# Altium footprint library LEDs.PcbLib: 6 footprints
Each footprint in its own frame and in the unit in brackets; x right, y up, seen from the top. Pads: shape width x height; smd on the part's side, far side on the other; paste and mask are expansions set on the pad; w line width, h text height; cw(c..) or ccw(c..) is an arc to the next point about the centre after c.
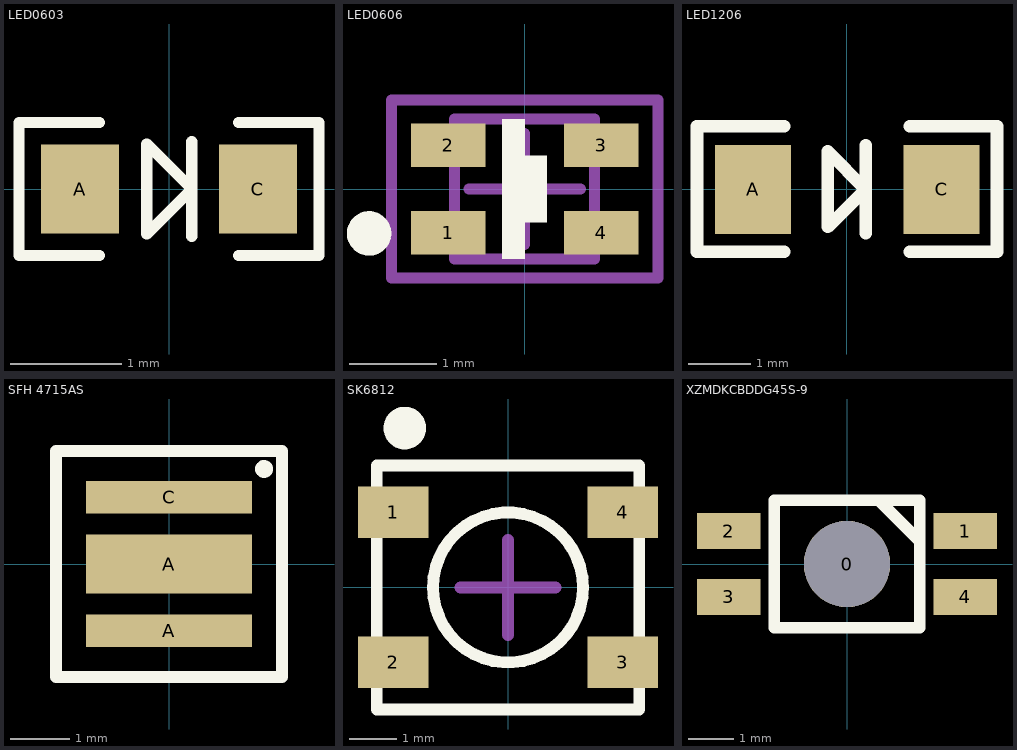
[diagram p0: the footprints below, top view; thin cyan lines are the x and y axes]

## LED0603 [mm]
pads (2):
  rect 0.7x0.8 smd: A(-0.8,0) C(0.8,0)
Top Overlay:
  lines w0.1: -0.625,-0.6 -1.35,-0.6 -1.35,0.6 -0.625,0.6 ; -0.2,-0.405 0.205,0 -0.2,0.405 ; -0.2,-0.4 -0.2,0.4 ; 0.205,-0.425 0.205,0.425 ; 0.625,-0.6 1.35,-0.6 1.35,0.6 0.625,0.6
3D body "LED 0603 APT1608 WHITE.STEP": height 0.75, standoff 0, extent -0.8,-0.4 0.8,0.4

## LED0606 [mm] "LED, RGB (common anode), 0606 chip package"
height 0.35
pads (4):
  rect 0.85x0.5 smd: 1(-0.875,-0.5) 2(-0.875,0.5) 3(0.875,0.5) 4(0.875,-0.5)
Top Overlay:
  circle w0.254: c-1.778,-0.508 r0.127
  region: -0.254,0.8 -0.254,-0.8 0,-0.8 0,-0.381 0.254,-0.381 0.254,0.381 0,0.381 0,0.8
Mechanical 2:
  lines w0.127: -0.635,0 0.635,0 ; 0,-0.635 0,0.635 ; -1.524,-1.016 1.524,-1.016 1.524,1.016 -1.524,1.016 -1.524,-1.016
Mechanical 3:
  lines w0.127: -0.8,-0.8 0.8,-0.8 0.8,0.8 -0.8,0.8 -0.8,-0.8
3D body "Kingbright_APTF1616.STEP": height 0.71, standoff 0.01, extent -0.8,-0.8 0.8,0.8

## LED1206 [mil]
pads (2):
  rect 48x56 smd: A(-59.06,0) C(60,0)
Top Overlay:
  lines w8: -39.37,-39.37 -94.49,-39.37 -94.49,40 -39.37,40 ; 12,-27.56 12,0 ; 12,28 12,0 ; 40,-39.37 95,-39.37 95,40 40,40 ; 12,0 -11.81,-23.62 -11.81,24 12,0
3D body "Surface Mount Chip LED 3.2x1.6mm.stp": height 43.31, standoff -0.39, extent -62.99,-31.5 62.99,31.49

## SFH 4715AS [mm]
pads (3):
  rect 2.8x0.55 smd: A(0,-1.125) C(0,1.125)
  rect 2.8x1 smd: A(0,0)
Top Overlay:
  circle w0.2: c1.6,1.6 r0.05
  lines w0.2: -1.9,-1.9 -1.9,1.9 1.9,1.9 1.9,-1.9 -1.9,-1.9
3D body "SFH_4715AS_110615_geometry.STEP": height 2.4, standoff 0, extent -1.925,-1.925 1.925,1.925

## SK6812 [mm]
pads (4):
  rect 1.5x1.1 smd: 1(-2.45,1.6) 2(-2.45,-1.6) 3(2.45,-1.6) 4(2.45,1.6)
Top Overlay:
  circle w0.508: c-2.2,3.4 r0.2
  circle w0.254: c0,0 r1.6
  lines w0.254: -2.8,-2.6 -2.8,2.6 2.8,2.6 2.8,-2.6 -2.8,-2.6
Mechanical 3:
  lines w0.254: -1.016,0 1.016,0 ; 0,-1.016 0,1.016
3D body "WS2812_RGB_LED_updated.stp": height 1.5, standoff -0.2, extent -2.675,-2.475 2.675,2.475

## XZMDKCBDDG45S-9 [mm]
pads (5):
  round 1.9 hole 1.9 paste+0 mask+0: 0(0,0)
  rect 1.4x0.8 smd: 1(2.6,0.725) 2(-2.6,0.725) 3(-2.6,-0.725) 4(2.6,-0.725)
Top Overlay:
  lines w0.254: 0.5,1.4 0.7,1.4 1.6,0.5 ; -1.6,-1.4 -1.6,1.4 1.6,1.4 1.6,-1.4 -1.6,-1.4
3D body "XZxxxxxx45S-9.step": height 1.89, standoff -0.01, extent -2.6,-1.4 2.6,1.4